# Altium schematic symbol library RSxxx для сумматора.SchLib: 9 symbols
Pins are listed as number, name and electrical type; pins without a type are passive.

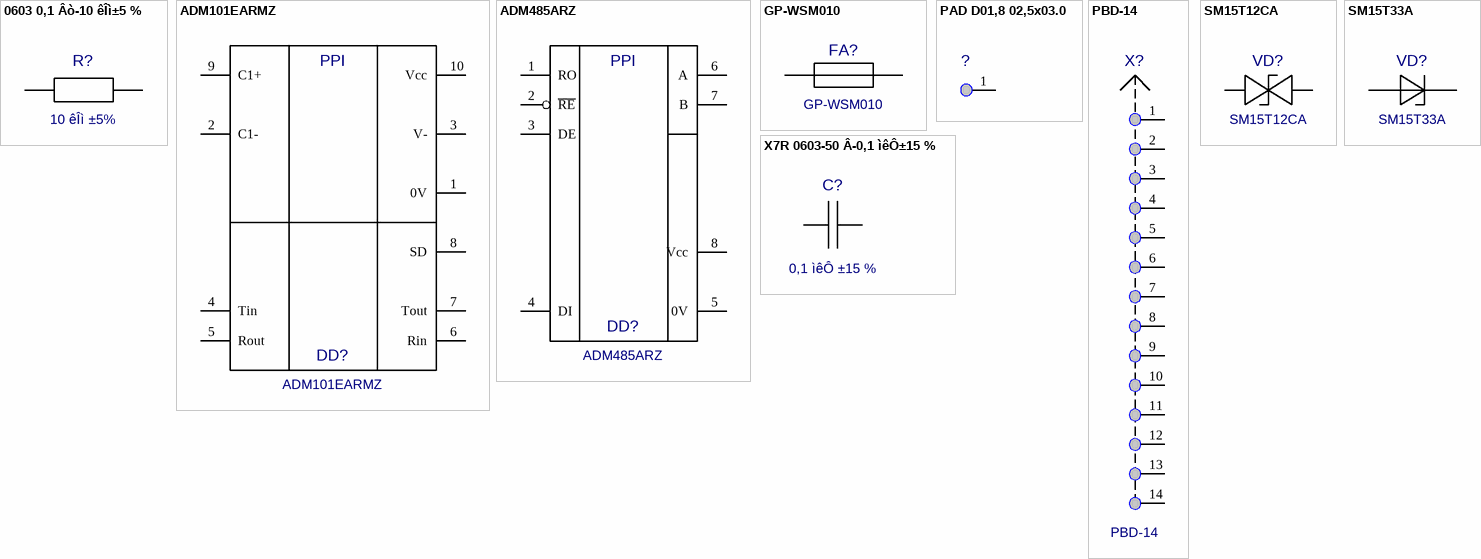
[diagram p0: symbols 0603 0,1 Âò-10 êÎì±5 % to X7R 0603-50 Â-0,1 ìêÔ±15 %]

## 0603 0,1 Âò-10 êÎì±5 %
designator R?  value 10 êÎì ±5%  (hidden comment: 0603 0,1 Âò-10 êÎì±5 %)
footprint PAT0603
pins: 1, 2

## ADM101EARMZ
designator DD?
Value: ADM101EARMZ
footprint SO-10 MIKRO
pins: 1 0V, 2 C1-, 3 V-, 4 Tin, 5 Rout, 6 Rin, 7 Tout, 8 SD, 9 C1+, 10 Vcc
text: PPI

## ADM485ARZ
designator DD?
Value: ADM485ARZ
footprint SO-08 (150MIL)
pins: 1 RO, 2 ~{RE}, 3 DE, 4 DI, 5 0V, 6 A, 7 B, 8 Vcc
text: PPI

## GP-WSM010
designator FA?
Value: GP-WSM010
footprint GP-WMS010
pins: 1, 2

## PAD D01,8 02,5x03.0
designator ?  (value not drawn)
Value: PAD D01,8 02,5x03.0
footprint PAD D01,8 02,5x03.0
pins: 1

## PBD-14
designator X?
Value: PBD-14
footprint PBD-14
pins: 1, 2, 3, 4, 5, 6, 7, 8, 9, 10, 11, 12, 13, 14

## SM15T12CA
designator VD?
Value: SM15T12CA
footprint SMC
pins: 1, 2

## SM15T33A
designator VD?
Value: SM15T33A
footprint SMC+
pins: 1, 2

## X7R 0603-50 Â-0,1 ìêÔ±15 %
designator C?  value 0,1 ìêÔ ±15 %  (hidden comment: X7R 0603-50 Â-0,1 ìêÔ±15 %)
footprint PAT0603
pins: 1, 2